# EAGLE library part 40X2PIN-2.54MM-MB-HEADER (library Itead-misc)
CON008
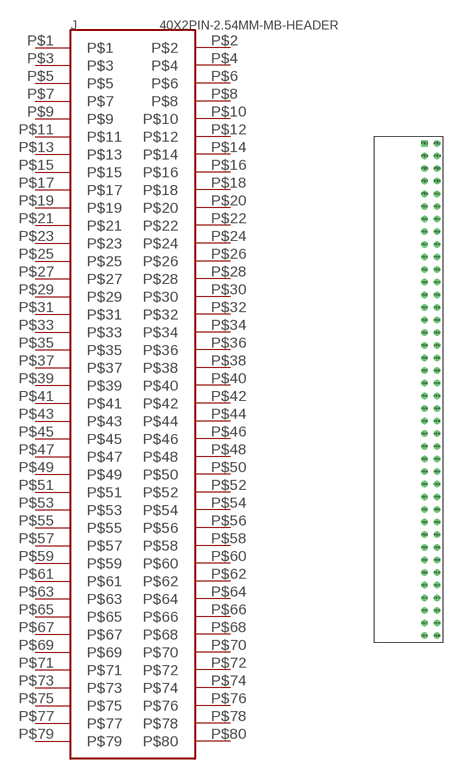
[diagram p8: symbol with the pads of 40X2-2.54MM-B; footprint 40X2-2.54MM-B]

Designator prefix J

## 40X2PIN-2.54MM-MB-HEADER  [40X2-2.54MM-B]
P$1  P$1
P$2  P$2
P$3  P$3
P$4  P$4
P$5  P$5
P$6  P$6
P$7  P$7
P$8  P$8
P$9  P$9
P$10  P$10
P$11  P$11
P$12  P$12
P$13  P$13
P$14  P$14
P$15  P$15
P$16  P$16
P$17  P$17
P$18  P$18
P$19  P$19
P$20  P$20
P$21  P$21
P$22  P$22
P$23  P$23
P$24  P$24
P$25  P$25
P$26  P$26
P$27  P$27
P$28  P$28
P$29  P$29
P$30  P$30
P$31  P$31
P$32  P$32
P$33  P$33
P$34  P$34
P$35  P$35
P$36  P$36
P$37  P$37
P$38  P$38
P$39  P$39
P$40  P$40
P$41  P$41
P$42  P$42
P$43  P$43
P$44  P$44
P$45  P$45
P$46  P$46
P$47  P$47
P$48  P$48
P$49  P$49
P$50  P$50
P$51  P$51
P$52  P$52
P$53  P$53
P$54  P$54
P$55  P$55
P$56  P$56
P$57  P$57
P$58  P$58
P$59  P$59
P$60  P$60
P$61  P$61
P$62  P$62
P$63  P$63
P$64  P$64
P$65  P$65
P$66  P$66
P$67  P$67
P$68  P$68
P$69  P$69
P$70  P$70
P$71  P$71
P$72  P$72
P$73  P$73
P$74  P$74
P$75  P$75
P$76  P$76
P$77  P$77
P$78  P$78
P$79  P$79
P$80  P$80

## Footprint 40X2-2.54MM-B (pad centres in mm)
drill 0.8 square: P$1 0,0
drill 0.8 round: P$2 2.54,0; P$3 0,-2.54; P$4 2.54,-2.54; P$5 0,-5.08; P$6 2.54,-5.08; P$7 0,-7.62; P$8 2.54,-7.62; P$9 0,-10.16; P$10 2.54,-10.16; P$11 0,-12.7; P$12 2.54,-12.7; P$13 0,-15.24; P$14 2.54,-15.24; P$15 0,-17.78; P$16 2.54,-17.78; P$17 0,-20.32; P$18 2.54,-20.32; P$19 0,-22.86; P$20 2.54,-22.86; P$21 0,-25.4; P$22 2.54,-25.4; P$23 0,-27.94; P$24 2.54,-27.94; P$25 0,-30.48; P$26 2.54,-30.48; P$27 0,-33.02; P$28 2.54,-33.02; P$29 0,-35.56; P$30 2.54,-35.56; P$31 0,-38.1; P$32 2.54,-38.1; P$33 0,-40.64; P$34 2.54,-40.64; P$35 0,-43.18; P$36 2.54,-43.18; P$37 0,-45.72; P$38 2.54,-45.72; P$39 0,-48.26; P$40 2.54,-48.26; P$41 0,-50.8; P$42 2.54,-50.8; P$43 0,-53.34; P$44 2.54,-53.34; P$45 0,-55.88; P$46 2.54,-55.88; P$47 0,-58.42; P$48 2.54,-58.42; P$49 0,-60.96; P$50 2.54,-60.96; P$51 0,-63.5; P$52 2.54,-63.5; P$53 0,-66.04; P$54 2.54,-66.04; P$55 0,-68.58; P$56 2.54,-68.58; P$57 0,-71.12; P$58 2.54,-71.12; P$59 0,-73.66; P$60 2.54,-73.66; P$61 0,-76.2; P$62 2.54,-76.2; P$63 0,-78.74; P$64 2.54,-78.74; P$65 0,-81.28; P$66 2.54,-81.28; P$67 0,-83.82; P$68 2.54,-83.82; P$69 0,-86.36; P$70 2.54,-86.36; P$71 0,-88.9; P$72 2.54,-88.9; P$73 0,-91.44; P$74 2.54,-91.44; P$75 0,-93.98; P$76 2.54,-93.98; P$77 0,-96.52; P$78 2.54,-96.52; P$79 0,-99.06; P$80 2.54,-99.06